# EAGLE library part WEMOS_C3_MINI (library Wemos_Boards)
Based on Wemos ESP32-C3 Mini. For more information see: https://www.wemos.cc/en/latest/c3/index.html
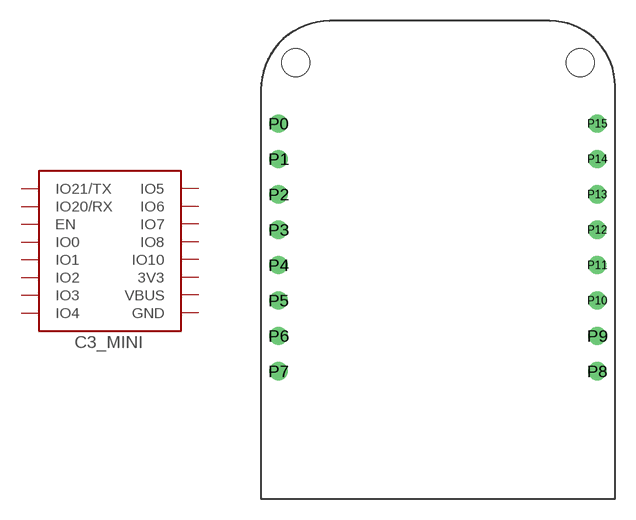
[diagram p3: symbol with the pads of C3_MINI; footprint C3_MINI]

Designator prefix -

## WEMOS_C3_MINI  [C3_MINI]
P0  IO21/TX
P1  IO20/RX
P2  IO10
P3  IO8
P4  IO7
P5  IO6
P6  GND  pwr
P7  VBUS  pwr
P8  3V3  pwr
P9  IO5
P10  IO4
P11  IO3
P12  IO2
P13  IO1
P14  IO0
P15  EN

## Footprint C3_MINI (pad centres in mm)
drill 0.8: P0 1.27,26.924; P1 1.27,24.384; P2 1.27,21.844; P3 1.27,19.304; P4 1.27,16.764; P5 1.27,14.224; P6 1.27,11.684; P7 1.27,9.144; P8 24.13,9.144; P9 24.13,11.684; P10 24.13,14.224; P11 24.13,16.764; P12 24.13,19.304; P13 24.13,21.844; P14 24.13,24.384; P15 24.13,26.924
hole 2 at 2.5,31.3
hole 2 at 22.9,31.3